# Altium footprint library 晶振封装库.PcbLib: 19 footprints (part 1 of 2)
Each footprint in its own frame and in the unit in brackets; x right, y up, seen from the top. Pads: shape width x height; smd on the part's side, far side on the other; paste and mask are expansions set on the pad; w line width, h text height; cw(c..) or ccw(c..) is an arc to the next point about the centre after c.
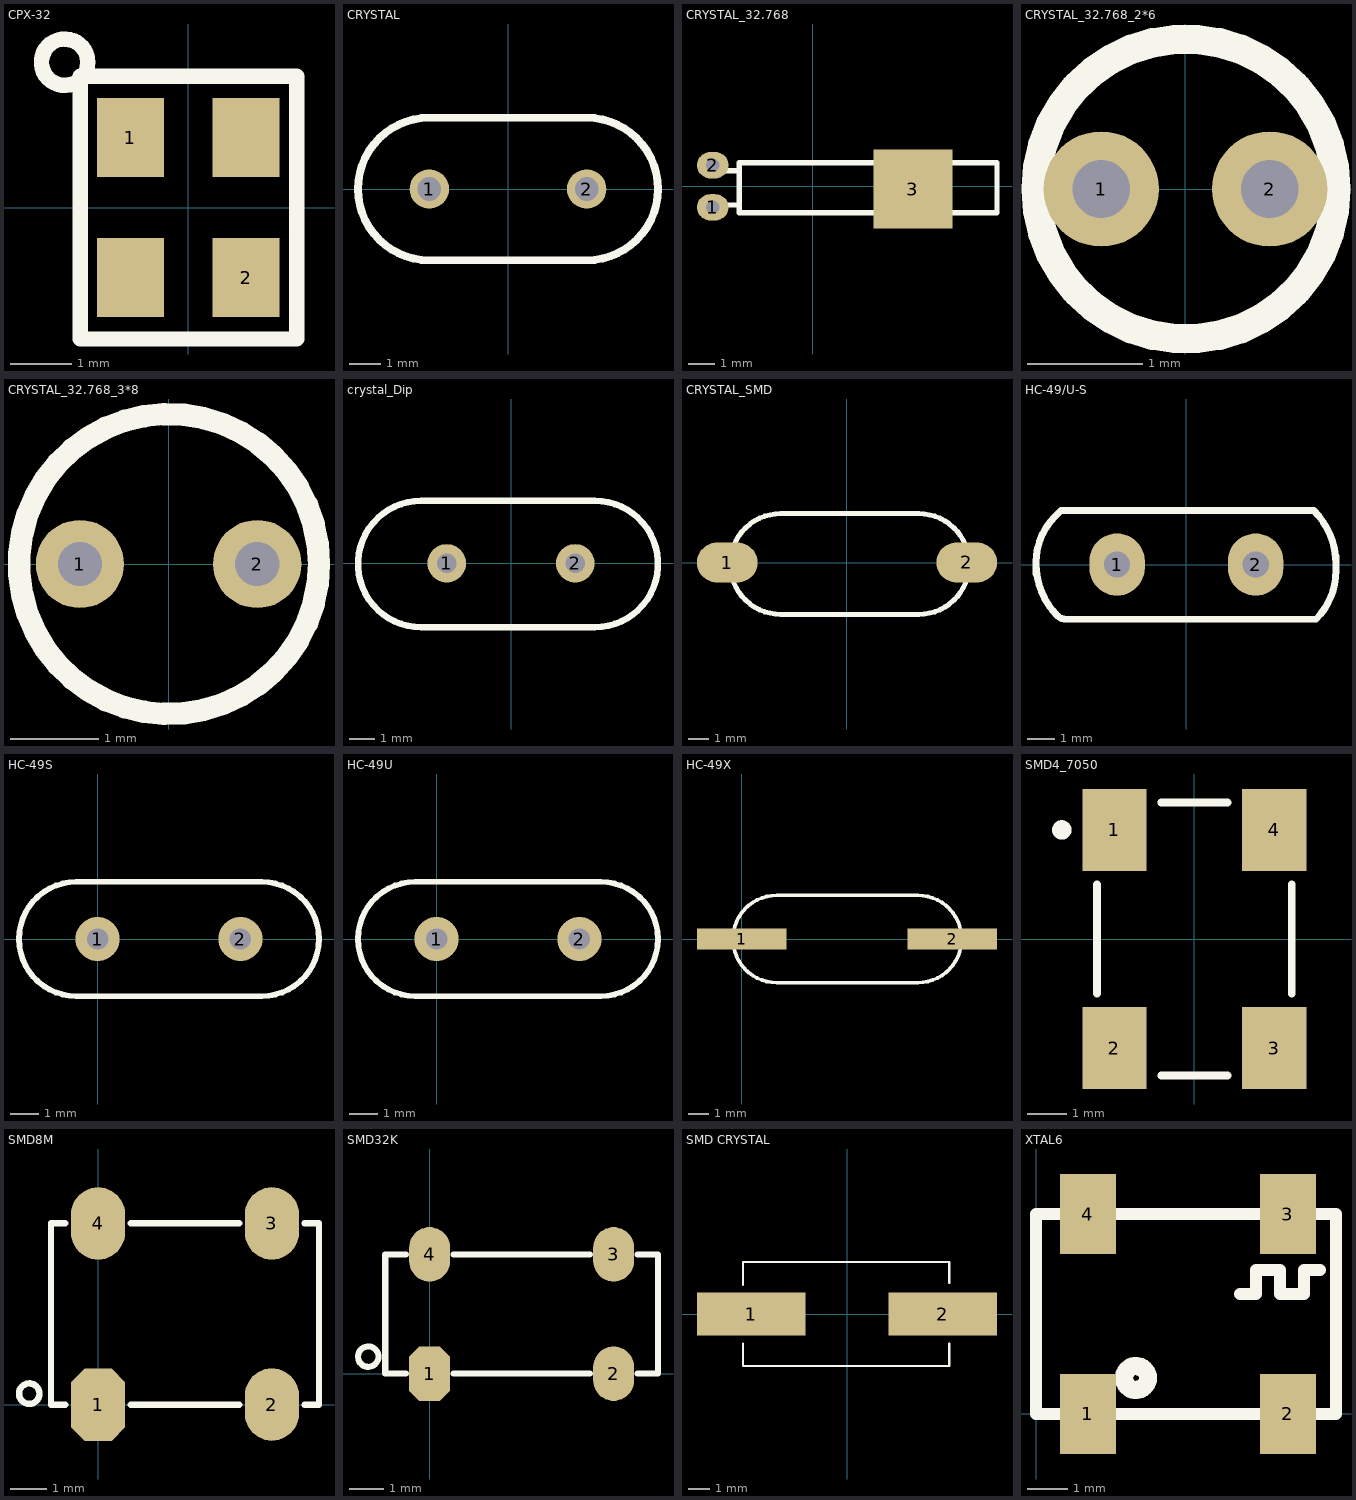
[diagram p0: the footprints below, top view; thin cyan lines are the x and y axes]

## CPX-32 [mm]
pads (4):
  rect 1.1x1.3 smd: 1(-0.95,1.15) 2(0.95,-1.15) ""(-0.95,-1.15) ""(0.95,1.15)
Top Overlay:
  circle w0.254: c-2.032,2.388 r0.381
  lines w0.254: 0.813,2.159 1.778,2.159 1.778,-2.159 -1.778,-2.159 -1.778,2.159 0.889,2.159
3D body: height 0.2, standoff 0, extent -1.168,-1.346 1.118,1.346
3D body: height 0.4, standoff 0.2, extent -1.168,-1.346 1.118,1.346

## CRYSTAL [mil]
pads (2):
  round 50 hole 30: 1(-100,0) 2(100,0)
Top Overlay:
  lines w10: -100,-90.55 cw(c-100,0) -100,90.55 100,90.55 cw(c100,0) 100,-90.55 -100,-90.55
3D body: height 138.4, standoff -156.88, extent -224.43,-90 222.43,93.07

## CRYSTAL_32.768 [mm]
height 1.99
pads (3):
  oval 1.2x1 hole 0.5: 1(-3.805,-0.8) 2(-3.805,0.8)
  rect 3x3 smd: 3(3.805,-0.109)
Top Overlay:
  lines w0.2: -3.495,-0.709 -2.795,-0.709 ; -3.395,0.591 -2.795,0.591 ; -2.595,-1.009 7.005,-1.009 7.005,0.891 -2.795,0.891 -2.795,-1.009 -2.495,-1.009
3D body: height 1.55, standoff -1.55, extent -4.46,-1.629 6.69,1.471

## CRYSTAL_32.768_2*6 [mm] "φ:2mm  height:6mm"
height 6
pads (2):
  round 1 hole 0.5: 1(-0.73,0) 2(0.73,0)
Top Overlay:
  circle w0.254: c0.005,0 r1.3

## CRYSTAL_32.768_3*8 [mm] "φ:3mm  height:8mm"
height 8
pads (2):
  round 1 hole 0.5: 1(-1.005,0) 2(1.005,0)
Top Overlay:
  circle w0.254: c0.005,0 r1.7
3D body: height 8.2, standoff -2.95, extent -1.55,-1.55 1.55,1.55

## crystal_Dip [mil]
pads (2):
  round 60 hole 30: 1(-100,0) 2(100,0)
Top Overlay:
  lines w10: -139.69,-99.39 cw(c-139.69,-0.97) -139.69,97.46 130.31,97.46 cw(c130.31,-0.97) 130.31,-99.39 -139.69,-99.39
3D body: height 144.88, standoff -72.83, extent -223.62,-92.13 216.54,92.91

## CRYSTAL_SMD [mm]
height 1.99
pads (2):
  oval 3x2 smd: 1(-5.945,-0.002) 2(5.945,0.002)
Top Overlay:
  lines w0.254: -3.293,-2.572 cw(c-3.293,-0.072) -3.293,2.428 3.565,2.428 cw(c3.565,-0.072) 3.565,-2.572 -3.293,-2.572
3D body: height 4.3, standoff 0, extent -6.305,-2.378 6.495,2.452

## HC-49/U-S [mil]
pads (2):
  oval 80x90 hole 38: 1(-100,0) 2(100,0)
Top Overlay:
  lines w10: -217,-13.82 -217,1 ccw(c-110.77,1) -185.89,-74.11 ccw(c-174.09,-62.31) -174.09,-79 187,-79 ccw(c116.99,-8.99) 216,-8.99 216,12 ; -217,3 cw(c-122.85,3) -189.42,69.58 -181,78 184,78 cw(c106.75,0.75) 216,0.75 216,-4
3D body: height 126.8, standoff -95, extent -210.3,-81.09 209.7,80.65

## HC-49S [mil]
pads (2):
  round 62 hole 30: 1(0,0) 2(200,0)
Top Overlay:
  lines w8: -30,-80 cw(c-30,0) -30,80 230,80 cw(c230,0) 230,-80 -30,-80

## HC-49U [mil]
pads (2):
  round 62 hole 30: 1(0,0) 2(200,0)
Top Overlay:
  lines w8: -30,-80 cw(c-30,0) -30,80 230,80 cw(c230,0) 230,-80 -30,-80

## HC-49X [mm]
pads (2):
  rect 4.3x1 smd: 1(0,0) 2(10.135,0)
Top Overlay:
  lines w0.178: 1.68,-2.1 cw(c1.68,0) 1.68,2.1 8.48,2.1 cw(c8.48,0) 8.48,-2.1 1.68,-2.1

## SMD4_7050 [mm]
pads (4):
  rect 1.65x2.1 smd: 1(-2.05,2.8) 2(-2.05,-2.8) 3(2.05,-2.8) 4(2.05,2.8)
Top Overlay:
  circle w0.25: c-3.4,2.8 r0.125
  lines w0.2: -2.5,-1.4 -2.5,1.4 ; -0.85,-3.5 0.85,-3.5 ; -0.85,3.5 0.85,3.5 ; 2.5,-1.4 2.5,1.4
3D body: height 0.9, standoff -0.05, extent -1.676,-2.5 1.524,2.5

## SMD8M [mm]
pads (4):
  oct 1.5x2 smd: 1(0,0)
  oval 1.5x2 smd: 2(4.8,0) 3(4.8,5) 4(0,5)
Top Overlay:
  circle w0.178: c-1.9,0.3 r0.283
  lines w0.178: -0.9,0 -1.3,0 -1.3,5 -0.9,5 ; 0.9,0 3.9,0 ; 0.9,5 3.9,5 ; 5.7,0 6.1,0 6.1,5 5.7,5

## SMD32K [mm]
pads (4):
  oct 1.2x1.6 smd: 1(-0.01,0)
  oval 1.2x1.6 smd: 2(5.39,0) 3(5.39,3.5) 4(-0.01,3.5)
Top Overlay:
  circle w0.178: c-1.81,0.5 r0.3
  lines w0.178: -0.71,0 -1.31,0 -1.31,3.5 -0.71,3.5 ; 0.69,0 4.69,0 ; 0.69,3.5 4.69,3.5 ; 6.09,0 6.69,0 6.69,3.5 6.09,3.5

## SMD CRYSTAL [mm]
pads (2):
  rect 5x2 smd: 1(-4.407,0) 2(4.407,0)
Top Overlay:
  lines w0.1: -4.788,-1.372 -4.788,-2.4 4.712,-2.4 4.712,-1.372 ; -4.788,1.346 -4.788,2.4 4.712,2.4 4.712,1.422
3D body: height 4, standoff 0, extent -6.751,-2.462 6.649,2.438

## XTAL6 [mm]
pads (4):
  rect 1.4x2 smd: 1(1.3,0) 2(6.3,0) 3(6.3,5) 4(1.3,5)
Top Overlay:
  circle w0.254: c2.5,0.9 r0.2
  circle w0.254: c2.5,0.9 r0.4
  lines w0.305: 5.1,3 5.5,3 5.5,3.6 6.1,3.6 6.1,3 6.6,3 6.7,3 6.7,3.6 7.1,3.6 ; 0,0 7.5,0 7.5,5 0,5 0,0